# Altium schematic symbol library 47054-1000.SchLib: 1 symbol
Pins are listed as number, name and electrical type; pins without a type are passive.

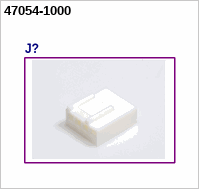
[diagram p0: symbol 47054-1000]

## 47054-1000
designator J?  (mechanical)